# Altium footprint library Tugkan.PcbLib: 12 footprints
Each footprint in its own frame and in the unit in brackets; x right, y up, seen from the top. Pads: shape width x height; smd on the part's side, far side on the other; paste and mask are expansions set on the pad; w line width, h text height; cw(c..) or ccw(c..) is an arc to the next point about the centre after c.
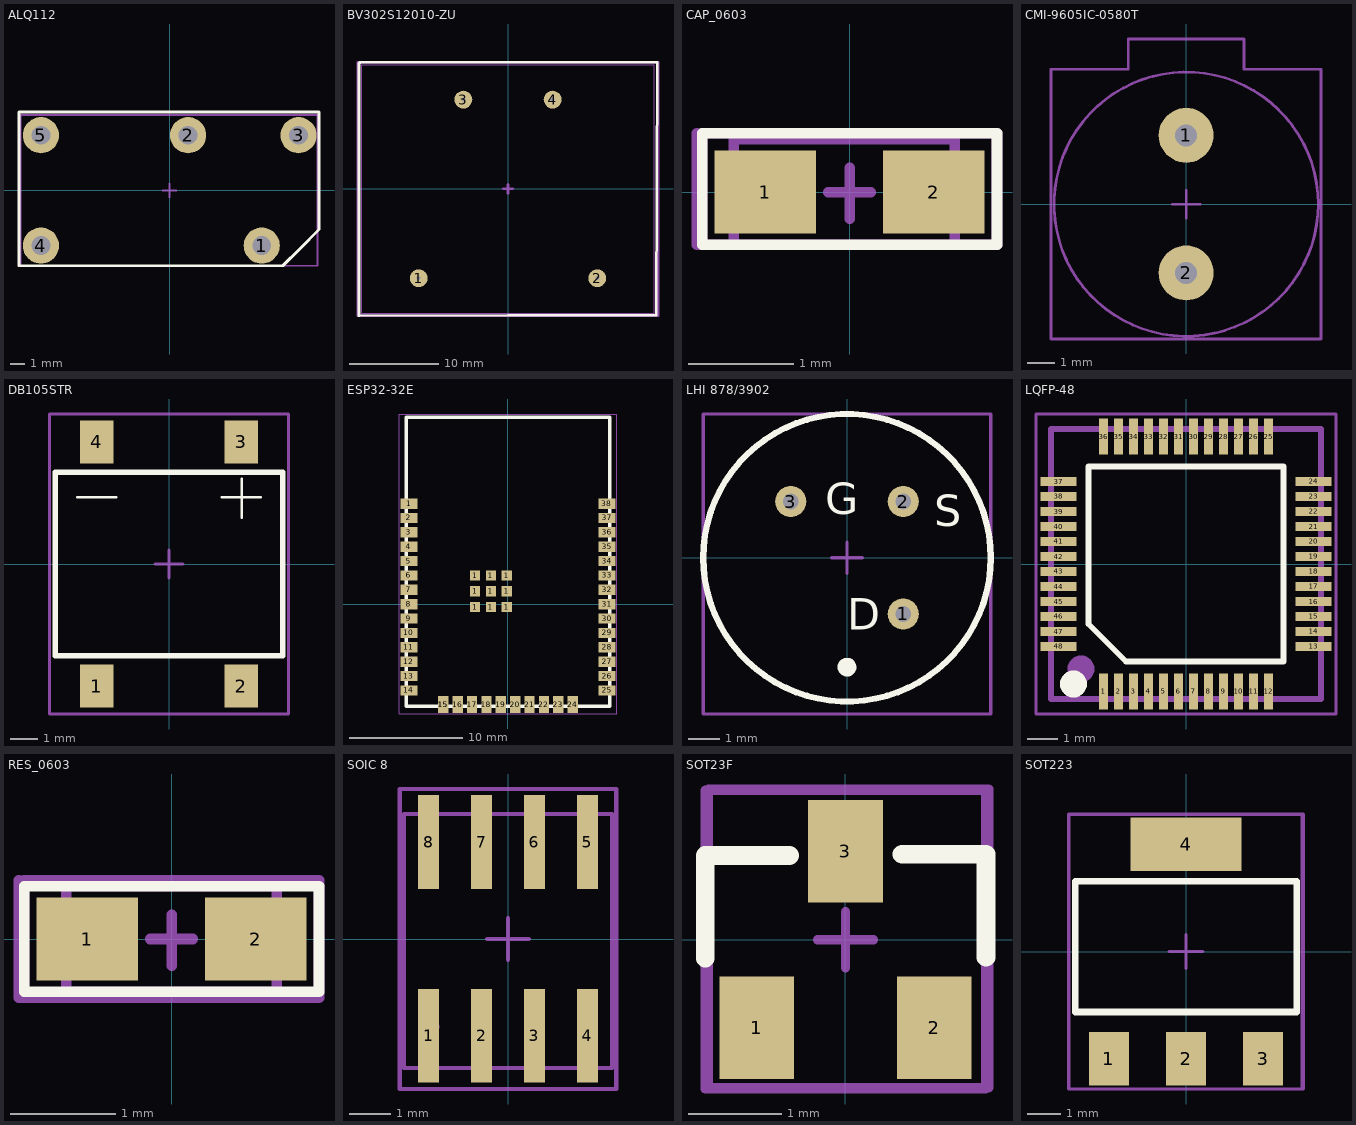
[diagram p0: the footprints below, top view; thin cyan lines are the x and y axes]

## ALQ112 [mm]
pads (5):
  round 2.5 hole 1.3 paste-2539.97 mask+0.1: 1(6.35,-3.81) 2(1.27,3.81) 3(8.89,3.81) 4(-8.89,-3.81) 5(-8.89,3.81)
Top Overlay:
  lines w0.2: 9,-4 10.3,-2.7 10.3,5.4 -10.4,5.4 -10.4,-5.2 7.8,-5.2 9,-4 ; 9,-4 9,-4
Top Component Center:
  lines w0.1: -0.5,0 0.5,0 ; 0,-0.5 0,0.5 ; -10.29,-5.19 10.21,-5.19 10.21,5.21 -10.29,5.21 -10.29,-5.19
Top Designator:
  lines w0.1: -0.522,-0.016 0.478,-0.016 ; -0.022,-0.516 -0.022,0.484 ; -10.312,-5.206 10.188,-5.206 10.188,5.194 -10.312,5.194 -10.312,-5.206
  text ".Designator" at -5.7,-0.534 h2
3D body: height 0.2, standoff -4, extent 5.95,-3.985 6.75,-3.635
3D body: height 0.4, standoff -4, extent 8.49,3.635 9.29,3.985
3D body: height 0.2, standoff -4, extent 0.87,3.635 1.67,3.985
3D body: height 0.45, standoff -3.75, extent -9.29,-4.21 -8.49,-3.41
3D body: height 0.45, standoff -3.75, extent -9.29,3.41 -8.49,4.21
3D body: height 15.6, standoff 0.4, extent -10,-5 10,5

## BV302S12010-ZU [mm]
pads (4):
  round 2 hole 0.45 paste-2539.97 mask+0.05: 1(-10,-10) 2(10,-10) 3(-5,10) 4(5,10)
Top Overlay:
  lines w0.3: -16.694,-14.22 -16.694,14.1 -16.6,14.1 -16.6,14.2 16.7,14.2 16.6,-14.12 -16.694,-14.22
Top 3D Body:
  lines w0.1: -16.4,-13.9 16.4,-13.9 16.4,13.9 -16.4,13.9 -16.4,-13.9
Top Component Center:
  lines w0.3: -0.5,0 0.5,0 ; 0,-0.5 0,0.5 ; -16.8,-14.2 16.8,-14.2 16.8,14.2 -16.8,14.2 -16.8,-14.2
Top Designator:
  lines w0.3: -16.8,-14.2 16.8,-14.2 16.8,14.2 -16.8,14.2 -16.8,-14.2
  text ".Designator" at -14,-1.334 h5
3D body: height 7.65, standoff 3.65, extent 9.607,-10.433 10.407,-9.633
3D body: height 7.65, standoff 3.65, extent -10.4,-10.4 -9.6,-9.6
3D body: height 7.65, standoff 3.65, extent 4.623,9.632 5.423,10.432
3D body "BV302S12010-ZU--3DModel-STEP-269445.STEP": height 8, standoff -18.8, extent -16.4,-13.9 16.4,13.9
3D body: height 7.65, standoff 3.65, extent -5.4,9.6 -4.6,10.4

## CAP_0603 [mil]
pads (2):
  rect 38x31 smd mask+1.97: 1(-31.5,0) 2(31.5,0)
Top Overlay:
  lines w3.94: -55.12,-19.68 55.12,-19.68 55.12,22 48.94,22 36.81,22 27.75,22 -26.75,22 -35.81,22 -47.94,22 -55.12,22 -55.12,-19.68
Top 3D Body:
  lines w3.94: -43.31,-19.68 39.37,-19.68 39.37,19.68 -43.31,19.68 -43.31,-19.68
Top Component Center:
  lines w3.94: -8,0 8,0 ; 0,-10 0,9 ; -55.12,-19.68 55.12,-19.68 55.12,22 -55.12,22 -55.12,-19.68
Top Designator:
  lines w3.94: -57,22 -57,-19.68 55.12,-19.68 55.12,22 -55.12,22
  text ".Designator" at -39.06,-6.5 h19.68
3D body "CAPC0603.STEP": height 31.5, standoff 0, extent -43.34,-20.25 39.37,20.25

## CMI-9605IC-0580T [mm]
pads (2):
  round 2 hole 0.8 paste-2539.97 mask+0.05: 1(0,2.5) 2(0,-2.5)
Top Component Center:
  circle w0.1: c0,0 r4.8
  lines w0.1: -0.5,0 0.5,0 ; 0,-0.5 0,0.5
Top Designator:
  lines w0.1: -4.911,-4.9 -4.911,4.9 -2.1,4.9 -2.1,6 2.1,6 2.1,4.9 4.9,4.9 4.9,-4.9 -4.911,-4.9
  text ".Designator" at 3.4,-0.767 h1
3D body: height 5.2, standoff 5.15, extent -2,1.9 2,5.9
3D body: height 5.2, standoff 5.15, extent -4,-4 4,4
3D body: height 1.65, standoff -3.85, extent -0.3,-2.8 0.3,-2.2
3D body: height 0.15, standoff -5.35, extent -0.3,2.2 0.3,2.8
3D body: height 5.1, standoff 0.1, extent -4.8,-4.8 4.8,4.8

## DB105STR [mm]
pads (4):
  rect 1.2x1.55 smd paste-2539.97 mask+0.05: 1(-2.605,-4.4) 2(2.605,-4.4) 3(2.605,4.4) 4(-2.605,4.4)
Top Overlay:
  lines w0.1: -3.3,2.4 -2.95,2.4 -2.25,2.4 -1.9,2.4 ; 1.9,2.4 3.3,2.4 ; 2.622,1.672 2.622,3.072
  lines w0.2: -4.1,-3.3 -4.1,3.3 4.1,3.3 4.1,-3.3 -4.1,-3.3
Top Component Center:
  lines w0.1: -0.5,0 0.5,0 ; 0,-0.5 0,0.5 ; -4.3,-5.4 -4.3,5.4 4.3,5.4 4.3,-5.4 -4.3,-5.4
Top Designator:
  lines w0.1: -4.3,-5.4 4.3,-5.4 4.3,5.4 -4.3,5.4 -4.3,-5.4
  text ".Designator" at -3.7,0.133 h1
3D body "User Library-DB107S  DB-S.step": height 2.66, standoff 0, extent -4.16,-5.2 4.16,5.2

## ESP32-32E [mm]
pads (48):
  rect 1.5x0.9 smd paste+0 mask+0.05: 1(-8.738,8.87) 2(-8.755,7.62) 3(-8.755,6.35) 4(-8.755,5.08) 5(-8.755,3.81) 6(-8.755,2.54) 7(-8.755,1.27) 8(-8.755,0) 9(-8.755,-1.27) 10(-8.755,-2.54) 11(-8.755,-3.81) 12(-8.755,-5.08) 13(-8.755,-6.35) 14(-8.755,-7.62) 25(8.755,-7.62) 26(8.755,-6.35) 27(8.755,-5.08) 28(8.755,-3.81) 29(8.755,-2.54) 30(8.755,-1.27) 31(8.755,0) 32(8.755,1.27) 33(8.755,2.54) 34(8.755,3.81) 35(8.755,5.08) 36(8.755,6.35) 37(8.755,7.62) 38(8.738,8.87)
  rect 0.9x0.9 smd paste+0 mask+0.05: 1(-2.905,-0.26) 1(-2.905,1.14) 1(-2.905,2.53) 1(-1.505,-0.26) 1(-1.505,1.14) 1(-1.505,2.53) 1(-0.105,-0.26) 1(-0.105,1.14) 1(-0.105,2.53)
  rect 0.9x1.5 smd paste+0 mask+0.05: 15(-5.715,-8.87) 15(-5.715,-8.87) 16(-4.445,-8.87) 17(-3.175,-8.87) 18(-1.905,-8.87) 19(-0.635,-8.87) 20(0.635,-8.87) 21(1.905,-8.87) 22(3.175,-8.87) 23(4.445,-8.87) 24(5.715,-8.87)
Top Overlay:
  lines w0.3: -9,-9 -9,16.5 9,16.5 9,-9 -9,-9
Top Designator:
  lines w0.1: -9.6,-9.7 -9.6,16.8 9.6,16.8 9.6,-9.7 9.003,-9.7 8.809,-9.7 8.112,-9.7 6.138,-9.7 5.441,-9.7 5.247,-9.7 4.55,-9.7 -4.55,-9.7 -5.247,-9.7 -5.441,-9.7 -6.138,-9.7 -8.112,-9.7 -8.809,-9.7 -9.003,-9.7 -9.6,-9.7
  text ".Designator" at 6.1,4.466 h2
3D body "User Library-ESP32-WROOM-32E-1.step": height 0.02, standoff -3.15, extent -9,-9.159 9.036,16.359

## LHI 878/3902 [mm]
pads (3):
  round 1 hole 0.5 paste-2539.97 mask+0.1: 1(1.8,-1.8) 2(1.8,1.8) 3(-1.8,1.8)
Top Overlay:
  circle w0.2: c0,0 r4.6
  lines w0.4: 0.095,-3.468 ccw(c0,-3.5) 0.1,-3.5
  text "G" at -0.7,1.4 h1
  text "S" at 2.8,1 h1
  text "D" at 0,-2.3 h1
Top Component Center:
  lines w0.1: -0.5,0 0.5,0 ; 0,-0.5 0,0.5 ; -4.6,-5 -4.6,4.6 4.6,4.6 4.6,-5 -4.6,-5
Top Designator:
  lines w0.1: -0.5,0 0.5,0 ; 0,-0.5 0,0.5 ; -4.6,-5 -4.6,4.6 4.6,4.6 4.6,-5 -4.6,-5
  text ".Designator" at -1.4,-0.567 h1
3D body "User Library-LHI878.step": height 4.6, standoff -2.4, extent -4.6,-5.029 4.6,4.6

## LQFP-48 [mm]
pads (48):
  rect 0.3x1.2 smd mask+0.05: 1(-2.75,-4.25) 2(-2.25,-4.25) 3(-1.75,-4.25) 4(-1.25,-4.25) 5(-0.75,-4.25) 6(-0.25,-4.25) 7(0.25,-4.25) 8(0.75,-4.25) 9(1.25,-4.25) 10(1.75,-4.25) 11(2.25,-4.25) 12(2.75,-4.25) 25(2.75,4.25) 26(2.25,4.25) 27(1.75,4.25) 28(1.25,4.25) 29(0.75,4.25) 30(0.25,4.25) 31(-0.25,4.25) 32(-0.75,4.25) 33(-1.25,4.25) 34(-1.75,4.25) 35(-2.25,4.25) 36(-2.75,4.25)
  rect 1.2x0.3 smd mask+0.05: 13(4.25,-2.75) 14(4.25,-2.25) 15(4.25,-1.75) 16(4.25,-1.25) 17(4.25,-0.75) 18(4.25,-0.25) 19(4.25,0.25) 20(4.25,0.75) 21(4.25,1.25) 22(4.25,1.75) 23(4.25,2.25) 24(4.25,2.75) 37(-4.25,2.75) 38(-4.25,2.25) 39(-4.25,1.75) 40(-4.25,1.25) 41(-4.25,0.75) 42(-4.25,0.25) 43(-4.25,-0.25) 44(-4.25,-0.75) 45(-4.25,-1.25) 46(-4.25,-1.75) 47(-4.25,-2.25) 48(-4.25,-2.75)
Top Overlay:
  circle w0.5: c-3.75,-4 r0.2
  lines w0.2: -3.25,-2 -2,-3.25 3.25,-3.25 3.25,3.25 -3.25,3.25 -3.25,-2
Top 3D Body:
  circle w0.5: c-3.5,-3.5 r0.2
  lines w0.2: -4.5,-4.5 4.5,-4.5 4.5,4.5 -4.5,4.5 -4.5,-4.5
Top Component Center:
  lines w0.1: -5,-5 5,-5 5,5 -5,5 -5,-5
Top Designator:
  text ".Designator" at -1.496,-0.238 h1.52
3D body "STM32F103C6T6ATR.STEP": height 1.6, standoff 0, extent -4.5,-4.5 4.5,4.5

## RES_0603 [mil]
pads (2):
  rect 38x31 smd mask+1.97: 1(-31.5,0) 2(31.5,0)
Top Overlay:
  lines w3.94: -55.12,-19.68 55.12,-19.68 55.12,19.68 46.62,19.68 31.48,19.68 -30.48,19.68 -45.62,19.68 -55.12,19.68 -55.12,-19.68
Top 3D Body:
  lines w3.94: -39.37,-19.68 39.37,-19.68 39.37,19.68 -39.37,19.68 -39.37,-19.68
Top Component Center:
  lines w3.94: -8,0 8,0 ; 0,-10 0,9 ; -55.12,-22 55.12,-22 55.12,22 -55.12,22 -55.12,-22
Top Designator:
  lines w3.94: -57,22 -57,-22 -55.12,-20.12 -55.12,22 55.12,22 55.12,-22 -56,-22
  text ".Designator" at -39.06,-6.5 h19.68
3D body "0603S1.STEP": height 16.89, standoff -0.83, extent -38.92,-19.68 38.92,18.88

## SOIC 8 [mm]
pads (8):
  rect 0.5x2.25 smd paste+0 mask+0.05: 1(-1.905,-2.325) 2(-0.635,-2.325) 3(0.635,-2.325) 4(1.905,-2.325) 5(1.905,2.325) 6(0.635,2.325) 7(-0.635,2.325) 8(-1.905,2.325)
Top 3D Body:
  circle w0.3: c-1.9,-2.1 r0.1
  lines w0.1: -2.5,-3.1 2.5,-3.1 2.5,3 -2.5,3 -2.5,-3.1
Top Component Center:
  lines w0.1: -0.5,0 0.5,0 ; 0,-0.5 0,0.5 ; -2.6,-3.6 -2.6,3.6 2.6,3.6 2.6,-3.6 -2.6,-3.6
Top Designator:
  lines w0.1: -2.6,-3.6 2.6,-3.6 2.6,3.6 -2.6,3.6 -2.6,-3.6
  text ".Designator" at 0.467,-1.8 h1
3D body "User Library-SOIC-8-1.step": height 1.5, standoff 0, extent -2.455,-3.015 2.445,2.965

## SOT23F [mm]
pads (3):
  rect 0.8x1.1 smd paste-2539.97 mask+0.05: 1(-0.95,-0.945) 2(0.95,-0.945) 3(0,0.945)
Top Overlay:
  lines w0.2: -1.5,-0.2 -1.5,0.9 -0.6,0.9 ; 0.606,0.912 1.506,0.912 1.506,-0.188
Top Component Center:
  lines w0.1: -0.3,0 0.3,0 ; 0,-0.3 0,0.3 ; -1.5,-1.6 -1.5,1.6 1.5,1.6 1.5,-1.6 -1.5,-1.6
Top Designator:
  lines w0.1: -1.467,-1.587 -1.467,1.613 1.533,1.613 1.533,-1.587 -1.467,-1.587
  text ".Designator" at -1.2,-0.3 h0.6
3D body "SOT23-3.stp": height 1.2, standoff 0.02, extent -1.5,-1.418 1.5,1.418

## SOT223 [mm]
pads (4):
  rect 1.2x1.6 smd paste-2539.97 mask+0.1: 1(-2.3,-3.2) 2(0,-3.2) 3(2.3,-3.2)
  rect 3.3x1.6 smd paste-2539.97 mask+0.1: 4(0,3.2)
Top Overlay:
  lines w0.2: -3.3,-1.8 -3.3,2.1 3.3,2.1 3.3,-1.8 -3.3,-1.8
Top Component Center:
  lines w0.1: -0.5,0 0.5,0 ; 0,-0.5 0,0.5 ; -3.5,-4.1 3.471,-4.1 3.471,4.1 -3.5,4.1 -3.5,-4.1
Top Designator:
  lines w0.1: -0.5,0 0.5,0 ; 0,-0.5 0,0.5 ; -3.5,-4.1 -3.5,4.1 3.5,4.1 3.5,-4.1 -3.5,-4.1
  text ".Designator" at -0.5,-0.467 h1
3D body "CircuitWorks-SOT-223.step": height 1.65, standoff -0.03, extent -3.25,-3.48 3.25,3.48